# EAGLE library part MCP3424 (library mcp)
Analog/Digital Converter Source: https://www.microchip.com/en-us/product/MCP3424
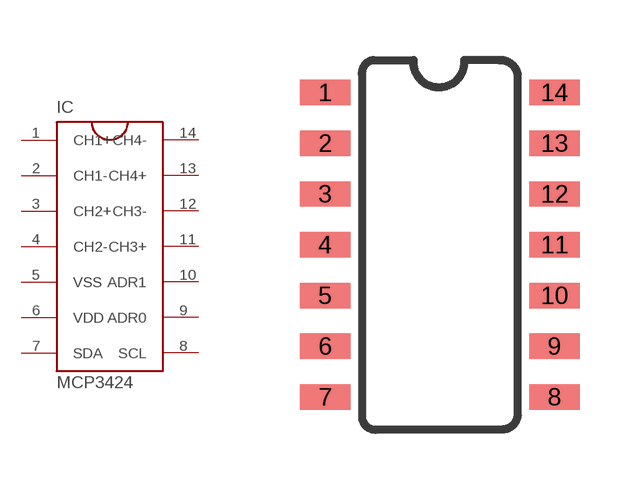
[diagram p0: symbol with the pads of SOIC14LD; footprint SOIC14LD]

Designator prefix IC

## MCP3424SOIC  [SOIC14LD]
1  CH1+
2  CH1-
3  CH2+
4  CH2-
5  VSS
6  VDD
7  SDA
8  SCL
9  ADR0
10  ADR1
11  CH3+
12  CH3-
13  CH4+
14  CH4-

## Footprint SOIC14LD (pad centres in mm)
14-Lead Plastic Small Outline (SO) Wide, 300 mil Body (SOIC)
smd 1.27 x 0.635: 1 -2.87,3.81; 2 -2.87,2.54; 3 -2.87,1.27; 4 -2.87,0; 5 -2.87,-1.27; 6 -2.87,-2.54; 7 -2.87,-3.81; 8 2.87,-3.81; 9 2.87,-2.54; 10 2.87,-1.27; 11 2.87,0; 12 2.87,1.27; 13 2.87,2.54; 14 2.87,3.81